# Altium footprint library black_V6.PcbLib: 18 footprints (part 2 of 2)
Each footprint in its own frame and in the unit in brackets; x right, y up, seen from the top. Pads: shape width x height; smd on the part's side, far side on the other; paste and mask are expansions set on the pad; w line width, h text height; cw(c..) or ccw(c..) is an arc to the next point about the centre after c.
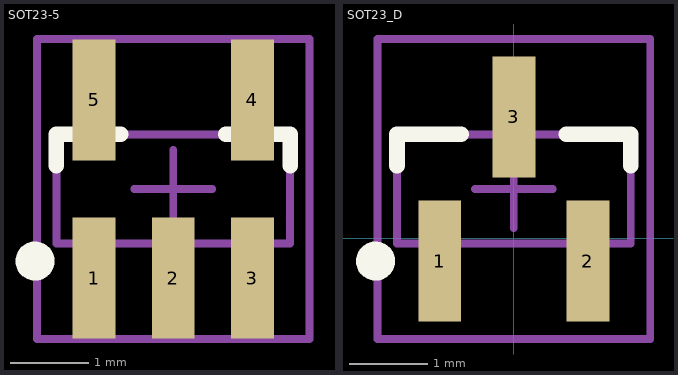
[diagram p1: the footprints below, top view; thin cyan lines are the x and y axes]

## SOT23-5 [mm]
pads (5):
  rect 0.55x1.55 smd: 1(-4.445,4.953) 2(-3.429,4.953) 3(-2.413,4.953) 4(-2.413,7.239) 5(-4.445,7.239)
Top Overlay:
  circle w0.25: c-5.204,5.171 r0.125
  lines w0.2: -4.929,6.396 -4.929,6.796 -4.104,6.796 ; -2.754,6.796 -1.929,6.796 -1.929,6.396
Mechanical 13:
  lines w0.1: -4.929,5.396 -4.929,6.796 -1.929,6.796 -1.929,5.396 -4.929,5.396
Mechanical 15:
  lines w0.1: -3.929,6.096 -2.929,6.096 ; -3.429,5.596 -3.429,6.596 ; -5.179,4.171 -5.179,8.021 -1.679,8.021 -1.679,4.171 -5.179,4.171
3D body: height 1.1, standoff 0.05, extent -4.929,5.396 -1.929,6.796

## SOT23_D [mm]
pads (3):
  rect 0.55x1.55 smd: 1(-0.95,-0.29) 2(0.95,-0.29) 3(0,1.56)
Top Overlay:
  circle w0.25: c-1.775,-0.29 r0.125
  lines w0.2: -1.5,0.935 -1.5,1.335 -0.675,1.335 ; 0.675,1.335 1.5,1.335 1.5,0.935
Mechanical 13:
  lines w0.1: -1.5,-0.065 1.5,-0.065 1.5,1.335 -1.5,1.335 -1.5,-0.065
Mechanical 15:
  lines w0.1: -0.5,0.635 0.5,0.635 ; 0,0.135 0,1.135 ; -1.75,-1.29 1.75,-1.29 1.75,2.56 -1.75,2.56 -1.75,-1.29
3D body: height 1.1, standoff 0.05, extent -1.5,-0.065 1.5,1.335